# Altium schematic symbol library Schlib1.SchLib: 4 symbols
Pins are listed as number, name and electrical type; pins without a type are passive.

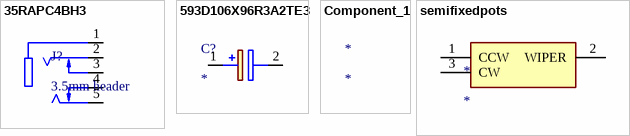
[diagram p0: symbols 35RAPC4BH3 to semifixedpots]

## 35RAPC4BH3
designator J?, comment 3.5mm header
3.50mm (0.141", 1/8", Mini Plug) - Headphone Phone Jack Stereo (3 Conductor, TRS) Connector Solder; MP: 35RAPC4BH3; Package: None; Price: None; Value: *; Availability: Unavailable
footprint SWITCHCRAFT_35RAPC4BH3
pins: 1, 2, 3, 4, 5

## 593D106X96R3A2TE3
designator C?
Capacitor Polarised; Manufacturer_Name: Vishay; Manufacturer_Part_Number: 593D106X96R3A2TE3; Description: Solid Tantalum Surface Mount Chip Capacitors TANTAMOUNT(TM); Datasheet Link: https://www.vishay.com/docs/40005/593d.pdf; Height: 1.8mm; Mouser Part Number: N/A; Mouser Price/Stock: https://www.mouser.com/Search/Refine.aspx?Keyword=N%2FA
footprint CAPPM3216X180N
pins: 1 +, 2 -

## Component_1
designator *

## semifixedpots
designator *
footprint VRRM065
pins: 1 CCW, 2 WIPER, 3 CW